# EAGLE library part TEN60-S24-S24-P4-VERT (library BackplaneConnector)
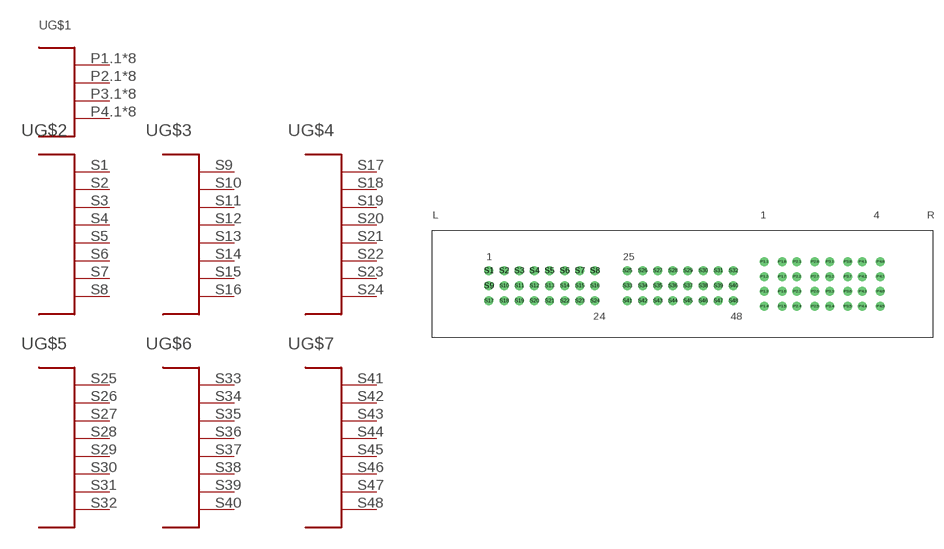
[diagram p6: symbol with the pads of TEN60-S24-S24-P4-VERT; footprint TEN60-S24-S24-P4-VERT]

Designator prefix -; gates G$1=TEN60-4-PWR G$2=TEN60-8-SIG G$3=TEN60-8-SIG G$4=TEN60-8-SIG G$5=TEN60-8-SIG G$6=TEN60-8-SIG G$7=TEN60-8-SIG

## TEN60-S24-S24-P4-VERT  [TEN60-S24-S24-P4-VERT]
P1.1  G$1:P$1
P1.2  G$1:P$1
P1.3  G$1:P$1
P1.4  G$1:P$1
P1.5  G$1:P$1
P1.6  G$1:P$1
P1.7  G$1:P$1
P1.8  G$1:P$1
P2.1  G$1:P$2
P2.2  G$1:P$2
P2.3  G$1:P$2
P2.4  G$1:P$2
P2.5  G$1:P$2
P2.6  G$1:P$2
P2.7  G$1:P$2
P2.8  G$1:P$2
P3.1  G$1:P$3
P3.2  G$1:P$3
P3.3  G$1:P$3
P3.4  G$1:P$3
P3.5  G$1:P$3
P3.6  G$1:P$3
P3.7  G$1:P$3
P3.8  G$1:P$3
P4.1  G$1:P$4
P4.2  G$1:P$4
P4.3  G$1:P$4
P4.4  G$1:P$4
P4.5  G$1:P$4
P4.6  G$1:P$4
P4.7  G$1:P$4
P4.8  G$1:P$4
S1  G$2:P$1
S2  G$2:P$2
S3  G$2:P$3
S4  G$2:P$4
S5  G$2:P$5
S6  G$2:P$6
S7  G$2:P$7
S8  G$2:P$8
S9  G$3:P$1
S10  G$3:P$2
S11  G$3:P$3
S12  G$3:P$4
S13  G$3:P$5
S14  G$3:P$6
S15  G$3:P$7
S16  G$3:P$8
S17  G$4:P$1
S18  G$4:P$2
S19  G$4:P$3
S20  G$4:P$4
S21  G$4:P$5
S22  G$4:P$6
S23  G$4:P$7
S24  G$4:P$8
S25  G$5:P$1
S26  G$5:P$2
S27  G$5:P$3
S28  G$5:P$4
S29  G$5:P$5
S30  G$5:P$6
S31  G$5:P$7
S32  G$5:P$8
S33  G$6:P$1
S34  G$6:P$2
S35  G$6:P$3
S36  G$6:P$4
S37  G$6:P$5
S38  G$6:P$6
S39  G$6:P$7
S40  G$6:P$8
S41  G$7:P$1
S42  G$7:P$2
S43  G$7:P$3
S44  G$7:P$4
S45  G$7:P$5
S46  G$7:P$6
S47  G$7:P$7
S48  G$7:P$8

## Footprint TEN60-S24-S24-P4-VERT (pad centres in mm)
drill 1: P1.1 55.68,12.75; P1.2 55.68,10.25; P1.3 55.68,7.75; P1.4 55.68,5.25; P1.5 58.68,5.25; P1.6 58.68,7.75; P1.7 58.68,10.25; P1.8 58.68,12.75; P2.1 61.18,12.75; P2.2 61.18,10.25; P2.3 61.18,7.75; P2.4 61.18,5.25; P2.5 64.18,5.25; P2.6 64.18,7.75; P2.7 64.18,10.25; P2.8 64.18,12.75; P3.1 66.68,12.75; P3.2 66.68,10.25; P3.3 66.68,7.75; P3.4 66.68,5.25; P3.5 69.68,5.25; P3.6 69.68,7.75; P3.7 69.68,10.25; P3.8 69.68,12.75; P4.1 72.18,12.75; P4.2 72.18,10.25; P4.3 72.18,7.75; P4.4 72.18,5.25; P4.5 75.18,5.25; P4.6 75.18,7.75; P4.7 75.18,10.25; P4.8 75.18,12.75; S1 9.49,11.24; S2 12.03,11.24; S3 14.57,11.24; S4 17.11,11.24; S5 19.65,11.24; S6 22.19,11.24; S7 24.73,11.24; S8 27.27,11.24; S9 9.49,8.7; S10 12.03,8.7; S11 14.57,8.7; S12 17.11,8.7; S13 19.65,8.7; S14 22.19,8.7; S15 24.73,8.7; S16 27.27,8.7; S17 9.49,6.16; S18 12.03,6.16; S19 14.57,6.16; S20 17.11,6.16; S21 19.65,6.16; S22 22.19,6.16; S23 24.73,6.16; S24 27.27,6.16; S25 32.73,11.24; S26 35.27,11.24; S27 37.81,11.24; S28 40.35,11.24; S29 42.89,11.24; S30 45.43,11.24; S31 47.97,11.24; S32 50.51,11.24; S33 32.73,8.7; S34 35.27,8.7; S35 37.81,8.7; S36 40.35,8.7; S37 42.89,8.7; S38 45.43,8.7; S39 47.97,8.7; S40 50.51,8.7; S41 32.73,6.16; S42 35.27,6.16; S43 37.81,6.16; S44 40.35,6.16; S45 42.89,6.16; S46 45.43,6.16; S47 47.97,6.16; S48 50.51,6.16